# EAGLE library part ATSAMC21 (library toyotune)
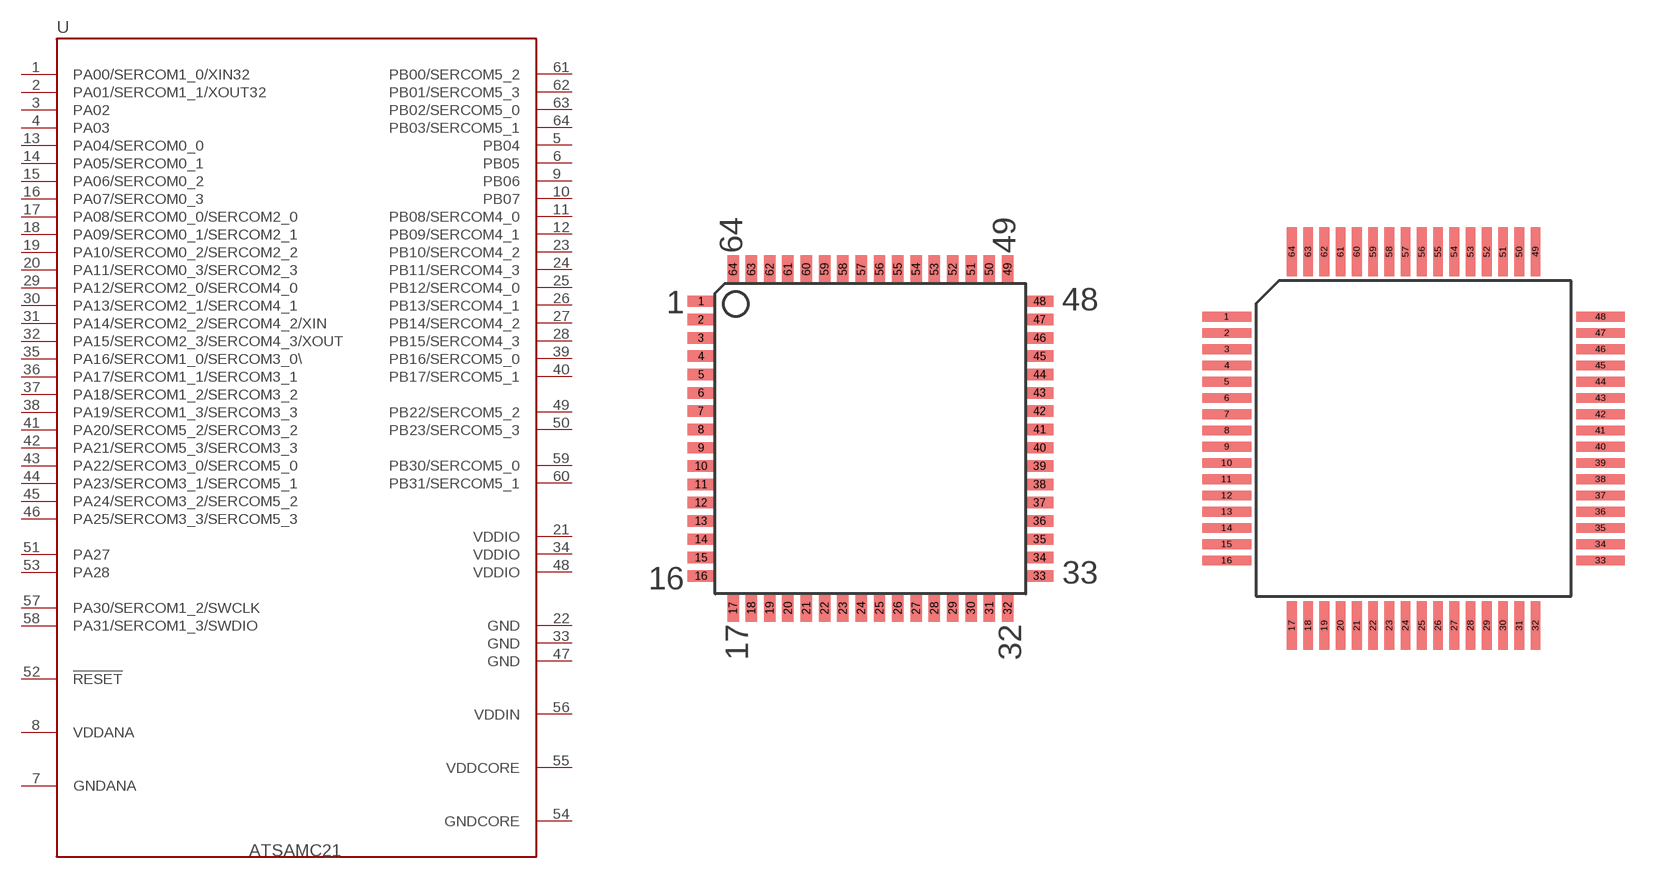
[diagram p58: symbol with the pads of TQFP64; footprints TQFP64, TQFP64-05]

Designator prefix -

## ATSAMC21  [TQFP64]
1  PA00/SERCOM1_0/XIN32
2  PA01/SERCOM1_1/XOUT32
3  PA02
4  PA03
5  PB04
6  PB05
7  GNDANA  pwr
8  VDDANA  pwr
9  PB06
10  PB07
11  PB08/SERCOM4_0
12  PB09/SERCOM4_1
13  PA04/SERCOM0_0
14  PA05/SERCOM0_1
15  PA06/SERCOM0_2
16  PA07/SERCOM0_3
17  PA08/SERCOM0_0/SERCOM2_0
18  PA09/SERCOM0_1/SERCOM2_1
19  PA10/SERCOM0_2/SERCOM2_2
20  PA11/SERCOM0_3/SERCOM2_3
21  VDDIO  pwr
22  GND  pwr
23  PB10/SERCOM4_2
24  PB11/SERCOM4_3
25  PB12/SERCOM4_0
26  PB13/SERCOM4_1
27  PB14/SERCOM4_2
28  PB15/SERCOM4_3
29  PA12/SERCOM2_0/SERCOM4_0
30  PA13/SERCOM2_1/SERCOM4_1
31  PA14/SERCOM2_2/SERCOM4_2/XIN
32  PA15/SERCOM2_3/SERCOM4_3/XOUT
33  GND  pwr
34  VDDIO  pwr
35  PA16/SERCOM1_0/SERCOM3_0\
36  PA17/SERCOM1_1/SERCOM3_1
37  PA18/SERCOM1_2/SERCOM3_2
38  PA19/SERCOM1_3/SERCOM3_3
39  PB16/SERCOM5_0
40  PB17/SERCOM5_1
41  PA20/SERCOM5_2/SERCOM3_2
42  PA21/SERCOM5_3/SERCOM3_3
43  PA22/SERCOM3_0/SERCOM5_0
44  PA23/SERCOM3_1/SERCOM5_1
45  PA24/SERCOM3_2/SERCOM5_2
46  PA25/SERCOM3_3/SERCOM5_3
47  GND  pwr
48  VDDIO  pwr
49  PB22/SERCOM5_2
50  PB23/SERCOM5_3
51  PA27
52  !RESET  in
53  PA28
54  GNDCORE  pwr
55  VDDCORE  pwr
56  VDDIN  pwr
57  PA30/SERCOM1_2/SWCLK
58  PA31/SERCOM1_3/SWDIO
59  PB30/SERCOM5_0
60  PB31/SERCOM5_1
61  PB00/SERCOM5_2
62  PB01/SERCOM5_3
63  PB02/SERCOM5_0
64  PB03/SERCOM5_1

## ATSAMC21JE18A-AU  [TQFP64-05]
Pads as for TQFP64

## Footprint TQFP64 (pad centres in mm)
Thin Plasic Quad Flat Package Updated from atml.lbr 17.01.2005 alf@cadsoft.de
smd 1.2 x 0.5: 1 -7.4,6; 2 -7.4,5.2; 3 -7.4,4.4; 4 -7.4,3.6; 5 -7.4,2.8; 6 -7.4,2; 7 -7.4,1.2; 8 -7.4,0.4; 9 -7.4,-0.4; 10 -7.4,-1.2; 11 -7.4,-2; 12 -7.4,-2.8; 13 -7.4,-3.6; 14 -7.4,-4.4; 15 -7.4,-5.2; 16 -7.4,-6; 33 7.4,-6; 34 7.4,-5.2; 35 7.4,-4.4; 36 7.4,-3.6; 37 7.4,-2.8; 38 7.4,-2; 39 7.4,-1.2; 40 7.4,-0.4; 41 7.4,0.4; 42 7.4,1.2; 43 7.4,2; 44 7.4,2.8; 45 7.4,3.6; 46 7.4,4.4; 47 7.4,5.2; 48 7.4,6
smd 0.5 x 1.2: 17 -6,-7.4; 18 -5.2,-7.4; 19 -4.4,-7.4; 20 -3.6,-7.4; 21 -2.8,-7.4; 22 -2,-7.4; 23 -1.2,-7.4; 24 -0.4,-7.4; 25 0.4,-7.4; 26 1.2,-7.4; 27 2,-7.4; 28 2.8,-7.4; 29 3.6,-7.4; 30 4.4,-7.4; 31 5.2,-7.4; 32 6,-7.4; 49 6,7.4; 50 5.2,7.4; 51 4.4,7.4; 52 3.6,7.4; 53 2.8,7.4; 54 2,7.4; 55 1.2,7.4; 56 0.4,7.4; 57 -0.4,7.4; 58 -1.2,7.4; 59 -2,7.4; 60 -2.8,7.4; 61 -3.6,7.4; 62 -4.4,7.4; 63 -5.2,7.4; 64 -6,7.4

## Footprint TQFP64-05 (pad centres in mm)
smd 1.5 x 0.3: 1 -5.75,3.75; 2 -5.75,3.25; 3 -5.75,2.75; 4 -5.75,2.25; 5 -5.75,1.75; 6 -5.75,1.25; 7 -5.75,0.75; 8 -5.75,0.25; 9 -5.75,-0.25; 10 -5.75,-0.75; 11 -5.75,-1.25; 12 -5.75,-1.75; 13 -5.75,-2.25; 14 -5.75,-2.75; 15 -5.75,-3.25; 16 -5.75,-3.75; 33 5.75,-3.75; 34 5.75,-3.25; 35 5.75,-2.75; 36 5.75,-2.25; 37 5.75,-1.75; 38 5.75,-1.25; 39 5.75,-0.75; 40 5.75,-0.25; 41 5.75,0.25; 42 5.75,0.75; 43 5.75,1.25; 44 5.75,1.75; 45 5.75,2.25; 46 5.75,2.75; 47 5.75,3.25; 48 5.75,3.75
smd 0.3 x 1.5: 17 -3.75,-5.75; 18 -3.25,-5.75; 19 -2.75,-5.75; 20 -2.25,-5.75; 21 -1.75,-5.75; 22 -1.25,-5.75; 23 -0.75,-5.75; 24 -0.25,-5.75; 25 0.25,-5.75; 26 0.75,-5.75; 27 1.25,-5.75; 28 1.75,-5.75; 29 2.25,-5.75; 30 2.75,-5.75; 31 3.25,-5.75; 32 3.75,-5.75; 49 3.75,5.75; 50 3.25,5.75; 51 2.75,5.75; 52 2.25,5.75; 53 1.75,5.75; 54 1.25,5.75; 55 0.75,5.75; 56 0.25,5.75; 57 -0.25,5.75; 58 -0.75,5.75; 59 -1.25,5.75; 60 -1.75,5.75; 61 -2.25,5.75; 62 -2.75,5.75; 63 -3.25,5.75; 64 -3.75,5.75